# Altium footprint library DF30FC40DS04V82.PcbLib: 1 footprints
Each footprint in its own frame and in the unit in brackets; x right, y up, seen from the top. Pads: shape width x height; smd on the part's side, far side on the other; paste and mask are expansions set on the pad; w line width, h text height; cw(c..) or ccw(c..) is an arc to the next point about the centre after c.
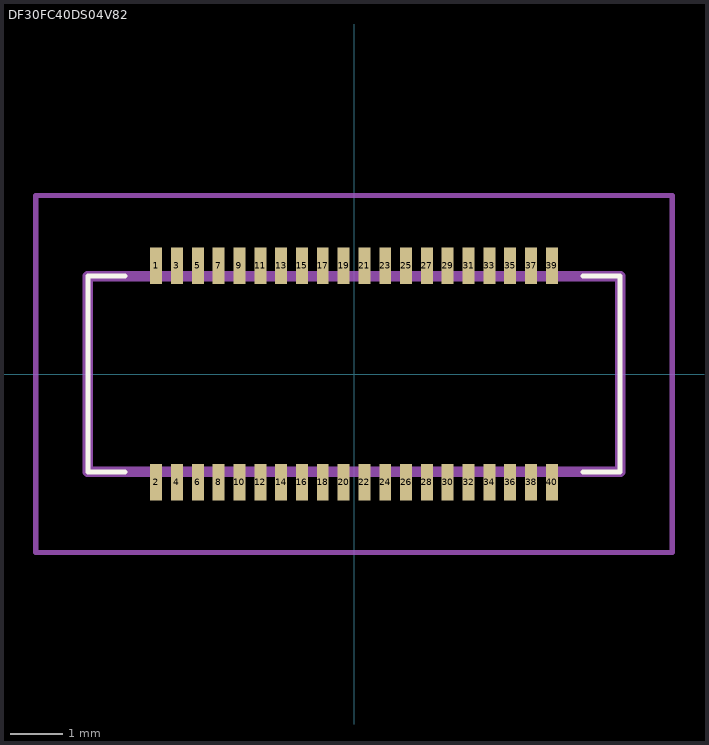
[diagram p0: the footprint, top view; thin cyan lines are the x and y axes]

## DF30FC40DS04V82 [mm]
pads (40):
  rect 0.23x0.7 smd: 1(-3.8,2.08) 2(-3.8,-2.08) 3(-3.4,2.08) 4(-3.4,-2.08) 5(-3,2.08) 6(-3,-2.08) 7(-2.6,2.08) 8(-2.6,-2.08) 9(-2.2,2.08) 10(-2.2,-2.08) 11(-1.8,2.08) 12(-1.8,-2.08) 13(-1.4,2.08) 14(-1.4,-2.08) 15(-1,2.08) 16(-1,-2.08) 17(-0.6,2.08) 18(-0.6,-2.08) 19(-0.2,2.08) 20(-0.2,-2.08) 21(0.2,2.08) 22(0.2,-2.08) 23(0.6,2.08) 24(0.6,-2.08) 25(1,2.08) 26(1,-2.08) 27(1.4,2.08) 28(1.4,-2.08) 29(1.8,2.08) 30(1.8,-2.08) 31(2.2,2.08) 32(2.2,-2.08) 33(2.6,2.08) 34(2.6,-2.08) 35(3,2.08) 36(3,-2.08) 37(3.4,2.08) 38(3.4,-2.08) 39(3.8,2.08) 40(3.8,-2.08)
L26-Silk Screen Top (Multiple PADS layers...):
  lines w0.1: -4.4,-1.88 -5.11,-1.88 -5.11,1.88 -4.4,1.88 ; 4.4,-1.88 5.11,-1.88 5.11,1.88 4.4,1.88
L15 (Multiple PADS layers...):
  lines w0.2: -5.11,-1.88 -5.11,1.88 5.11,1.88 5.11,-1.88 -5.11,-1.88
L20:
  lines w0.1: -6.11,-3.43 -6.11,3.43 6.11,3.43 6.11,-3.43 -6.11,-3.43
3D body "DF30FC-40DS-0.4V.stp": height 0.9, standoff 0, extent -5.103,-2.28 5.117,2.28